# Altium schematic symbol library HW_HOLLAND_NCDM_MONITOR_R1.SchLib: 617 symbols (part 3 of 7)
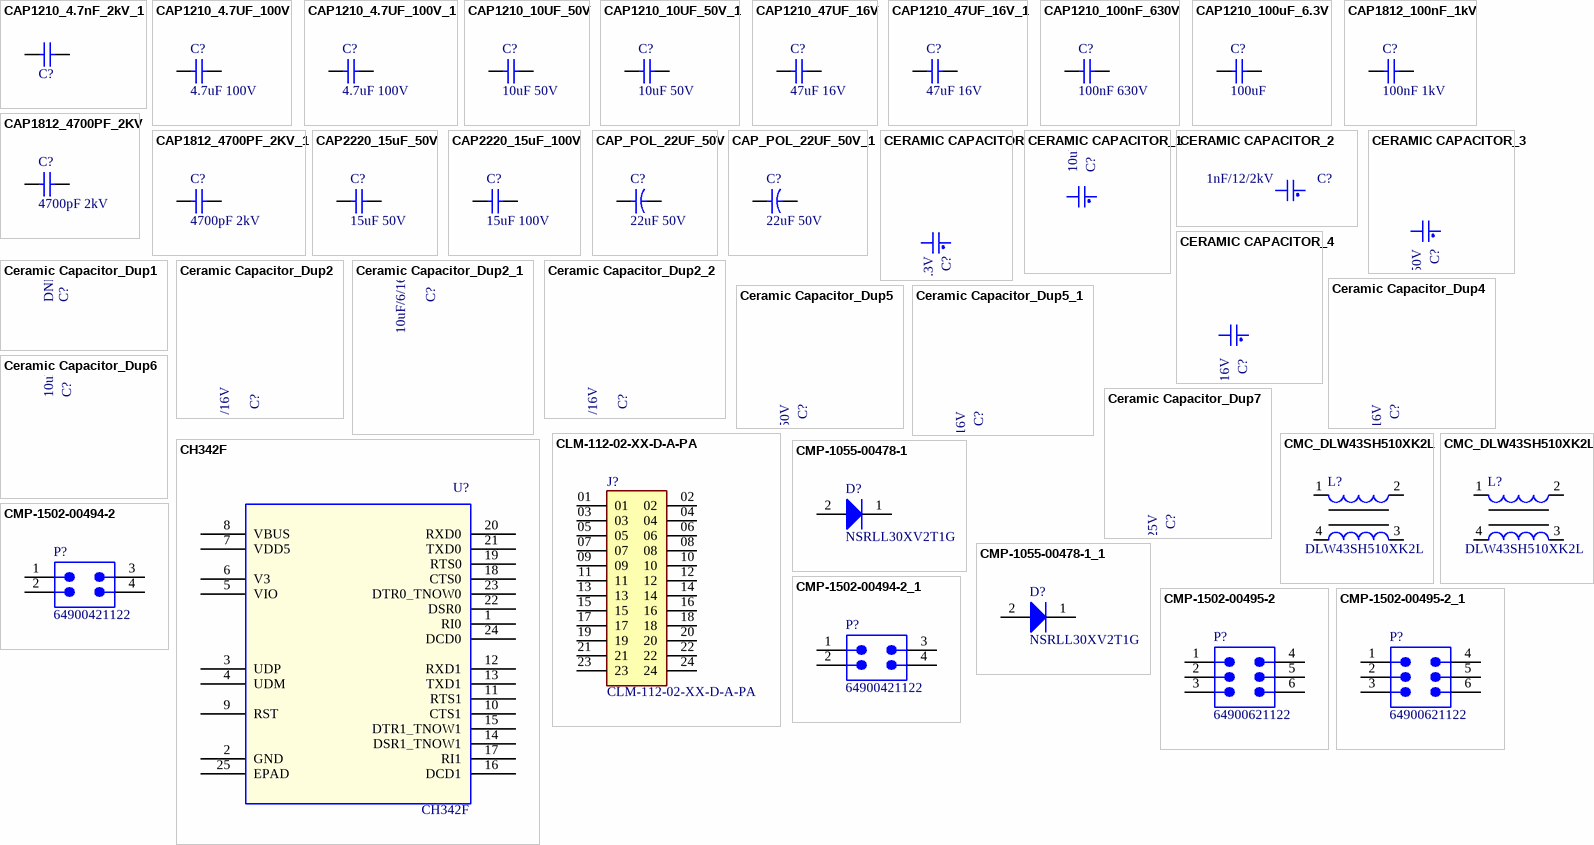
[diagram p21: symbols CAP1210_4.7nF_2kV_1 to CMP-1502-00495-2_1]

## CAP_POL_22UF_50V_1
designator C?, comment value 22uF 50V  (hidden comment: 22uF 50V ±20% SMD,D6.3xL5.4mm Aluminum Electrolytic Capacitors - SMD ROHS)
Manufacturer Part Number: CS1H220M-CRE54; Order Code: LCSC: C98744; LCSC Manufacturer Part Number: CS1H220M-CRE54; LCSC Part Number: C98744
footprint CAP-SMD_BD6.3-L6.6-W6.6-FD
pins: 1, 2

## CERAMIC CAPACITOR
designator C?, comment 22uF/6/6.3V
Ceramic Capacitor,22uF,6.3V,+/-20%,X5R,0603,Samsung; Manufacturer P/N: CL10A226MQ8NRNC; Myir P/N: 20401.00086; PCB Footprint: C0603; Part Type: Ceramic Capacitor; Manufacturer: Samsung; Reserve Value: 22uF; Datasheet: Samsung.pdf
footprint CAP0805
footprint C0603
pins: 1, 2

## CERAMIC CAPACITOR_1
designator C?, comment 10uF/6/16V
Ceramic Capacitor,10uF,+/-20%,X5R,16V,SMD,0603,Samsung; Manufacturer P/N: CL10A106MO8NQNC; Myir P/N: 20401.80062; PCB Footprint: C0603; Datasheet: Samsung.pdf; Reserve Value: 10uF; Manufacturer: Samsung; Part Type: Ceramic Capacitor
footprint CAP0805
footprint C0603
pins: 1, 2

## CERAMIC CAPACITOR_2
designator C?, comment 1nF/12/2kV
Ceramic Capacitor,1nF,+/-10%,2kV,X7R,SMD,1206,Fenghua; Manufacturer P/N: 1206B102K202NT; PCB Footprint: C1206; Myir P/N: 20401.00078; Datasheet: FENGHUA-Capacitor.pdf; Reserve Value: 1nF; Manufacturer: Fenghua; Part Type: Ceramic Capacitor
footprint CAP0805
footprint C1206
pins: 1, 2

## CERAMIC CAPACITOR_3
designator C?, comment 22pF/4/50V
Ceramic Capacitor,22pF,50V,+/-5%,C0G,0402,Fenghua; Manufacturer P/N: 0402CG220J500NT; Myir P/N: 20401.80101; PCB Footprint: C0402; Part Type: Ceramic Capacitor; Manufacturer: Fenghua; Reserve Value: 22pF; Datasheet: FENGHUA-Capacitor.pdf
footprint CAP0805
footprint C0402
pins: 1, 2

## CERAMIC CAPACITOR_4
designator C?, comment 100nF/4/16V
Ceramic Capacitor,100nF,16V,+/-10%,X7R,0402,Fenghua; Manufacturer P/N: 0402B104K160NT; Myir P/N: 20401.80188; PCB Footprint: C0402; Datasheet: FENGHUA-Capacitor.pdf; Reserve Value: 100nF; Manufacturer: Fenghua; Part Type: Ceramic Capacitor
footprint CAP0805
footprint C0402
pins: 1, 2

## Ceramic Capacitor_Dup1
designator C?, comment DNP
Ceramic Capacitor,100nF,16V,+/-10%,X7R,0402,Fenghua; Manufacturer P/N: 0402B104K160NT; PCB Footprint: C0402; Myir P/N: 20401.80188; Part Type: Ceramic Capacitor; Manufacturer: Fenghua; Reserve Value: 100nF; Datasheet: FENGHUA-Capacitor.pdf
footprint CAP0805
footprint C0402

## Ceramic Capacitor_Dup2
designator C?, comment 100nF/4/16V
Ceramic Capacitor,100nF,16V,+/-10%,X7R,0402,Fenghua; Manufacturer P/N: 0402B104K160NT; Myir P/N: 20401.80188; PCB Footprint: C0402; Part Type: Ceramic Capacitor; Manufacturer: Fenghua; Reserve Value: 100nF; Datasheet: FENGHUA-Capacitor.pdf
footprint CAP0805
footprint C0402

## Ceramic Capacitor_Dup2_1
designator C?, comment 10uF/6/16V
Ceramic Capacitor,10uF,+/-20%,X5R,16V,SMD,0603,Samsung; Manufacturer P/N: CL10A106MO8NQNC; Myir P/N: 20401.80062; PCB Footprint: C0603; Part Type: Ceramic Capacitor; Manufacturer: Samsung; Reserve Value: 10uF; Datasheet: Samsung.pdf
footprint CAP0805
footprint C0603

## Ceramic Capacitor_Dup2_2
designator C?, comment 4.7uF/6/16V
Ceramic Capacitor,4.7uF,+/-10%,X5R,16V,SMT,0603,Samsung; Manufacturer P/N: CL10A475KO8NNNC; Myir P/N: 20401.80066; PCB Footprint: C0603; Datasheet: Samsung.pdf; Reserve Value: 4.7uF; Manufacturer: Samsung; Part Type: Ceramic Capacitor
footprint CAP0805
footprint C0603

## Ceramic Capacitor_Dup4
designator C?, comment 100nF/4/16V
Ceramic Capacitor,100nF,16V,+/-10%,X7R,0402,Fenghua; Manufacturer P/N: 0402B104K160NT; Myir P/N: 20401.80188; PCB Footprint: C0402; Part Type: Ceramic Capacitor; Manufacturer: Fenghua; Reserve Value: 100nF; Datasheet: FENGHUA-Capacitor.pdf
footprint CAP0805
footprint C0402

## Ceramic Capacitor_Dup5
designator C?, comment 33pF/4/50V
Ceramic Capacitor,33pF,50V,+/-5%,C0G,0402,Fenghua; Manufacturer P/N: 0402CG330J500NT; Myir P/N: 20401.00091; PCB Footprint: C0402; Datasheet: FENGHUA-Capacitor.pdf; Reserve Value: 33pF; Manufacturer: Fenghua; Part Type: Ceramic Capacitor
footprint CAP0805
footprint C0402

## Ceramic Capacitor_Dup5_1
designator C?, comment 100nF/4/16V
Ceramic Capacitor,100nF,16V,+/-10%,X7R,0402,Fenghua; Manufacturer P/N: 0402B104K160NT; PCB Footprint: C0402; Myir P/N: 20401.80188; Part Type: Ceramic Capacitor; Manufacturer: Fenghua; Reserve Value: 100nF; Datasheet: FENGHUA-Capacitor.pdf
footprint CAP0805
footprint C0402

## Ceramic Capacitor_Dup6
designator C?, comment 10uF/6/16V
Ceramic Capacitor,10uF,+/-20%,X5R,16V,SMD,0603,Samsung; Manufacturer P/N: CL10A106MO8NQNC; PCB Footprint: C0603; Myir P/N: 20401.80062; Part Type: Ceramic Capacitor; Manufacturer: Samsung; Reserve Value: 10uF; Datasheet: Samsung.pdf
footprint CAP0805
footprint C0603

## Ceramic Capacitor_Dup7
designator C?, comment 22uF/12/25V
Ceramic Capacitor,22uF,25V,+/-10%,X5R,1206,Samsung; Manufacturer P/N: CL31A226KAHNNNE; Myir P/N: 20401.00064; PCB Footprint: C1206; Datasheet: Samsung.pdf; Reserve Value: 22uF; Manufacturer: Samsung; Part Type: Ceramic Capacitor
footprint CAP0805
footprint C1206

## CH342F
designator U?
IC,USB2.0 to Dual UART Ports,-40¡æ~+85¡æ,Industrial,SMD,QFN24,CH342F,Qinheng Micro; PCB Footprint: QFN24-0_5; Myir P/N: 20107.00089; Part Type: Interface; Manufacturer: Qinheng Micro; Manufacturer P/N: CH342F; Reserve Value: CH342F; Datasheet: CH342DS1.pdf
footprint QFN24_4*4
footprint QFN24-0_5
pins: 1 RI0, 2 GND, 3 UDP, 4 UDM, 5 VIO, 6 V3, 7 VDD5, 8 VBUS, 9 RST, 10 CTS1, 11 RTS1, 12 RXD1, 13 TXD1, 14 DSR1_TNOW1, 15 DTR1_TNOW1, 16 DCD1, 17 RI1, 18 CTS0, 19 RTS0, 20 RXD0, 21 TXD0, 22 DSR0, 23 DTR0_TNOW0, 24 DCD0, 25 EPAD (power)

## CLM-112-02-XX-D-A-PA
designator J?
24 Position Receptacle, Bottom Entry Connector Surface Mount; Manufacturer Part Number: CLM-112-02-G-D-A; Availability: Unavailable; Value: *; Price: None; Package: None
footprint SAMTEC_CLM-112-02-XX-D-A-PA
pins: 01, 02, 03, 04, 05, 06, 07, 08, 09, 10, 11, 12, 13, 14, 15, 16, 17, 18, 19, 20, 21, 22, 23, 24

## CMC_DLW43SH510XK2L
designator L?  Manufacturer Part Number: DLW43SH510XK2L  (hidden comment: CMC_DLW43SH510XK2L)
CMC 51UH 230MA 2LN SMD AEC-Q200; Value: 51uH; LCSC Part Number: C91595
footprint CMC_DLW43SH510XK2L
pins: 1, 2, 3, 4

## CMC_DLW43SH510XK2L_1
designator L?, comment Manufacturer Part Number: DLW43SH510XK2L  (hidden comment: CMC_DLW43SH510XK2L)
CMC 51UH 230MA 2LN SMD AEC-Q200; Value: 51uH; LCSC Part Number: C91595
footprint CMC_DLW43SH510XK2L
pins: 1, 2, 3, 4

## CMP-1055-00478-1
designator D?, comment NSRLL30XV2T1G
Schottky Barrier Diode, 2-Pin SOD-523, Pb-Free, Tape and Reel; Manufacturer: On Semiconductor; Configuration: Single; PackageReference: SOD-523-2-502-01; PackageVersion: Rev. E, 09/2010; ComponentLink1Description: Manufacturer URL; ComponentLink2URL: http://www.onsemi.cn/pub_link/Collateral/NSRLL30XV2-D.PDF; PartNumber: NSRLL30XV2T1G; PackageDescription: 2-Pin SOD, Body 1.2 x 0.8 mm; RoHS: TRUE; Mounting Technology: Surface Mount; ComponentLink3URL: http://www.onsemi.com/pub_link/Collateral/502-01.PDF; ComponentLink3Description: Package Specification; Packing: Tape and Reel; ComponentLink2Description: Datasheet; DatasheetVersion: Rev. 1; ComponentLink1URL: http://www.onsemi.com/; Manufacturer: ON Semiconductor; Manufacturer Part Number: NSRLL30XV2T1G
footprint ONSC-SOD-523-2-502-01_V (SOD, 2-Leads, Body 1.2x0.8mm)
pins: 1 K, 2 A

## CMP-1055-00478-1_1
designator D?, comment NSRLL30XV2T1G
Schottky Barrier Diode, 2-Pin SOD-523, Pb-Free, Tape and Reel; Manufacturer: On Semiconductor; Configuration: Single; PackageReference: SOD-523-2-502-01; PackageVersion: Rev. E, 09/2010; ComponentLink1Description: Manufacturer URL; ComponentLink2URL: http://www.onsemi.cn/pub_link/Collateral/NSRLL30XV2-D.PDF; PartNumber: NSRLL30XV2T1G; PackageDescription: 2-Pin SOD, Body 1.2 x 0.8 mm; RoHS: TRUE; Mounting Technology: Surface Mount; ComponentLink3URL: http://www.onsemi.com/pub_link/Collateral/502-01.PDF; ComponentLink3Description: Package Specification; Packing: Tape and Reel; ComponentLink2Description: Datasheet; DatasheetVersion: Rev. 1; ComponentLink1URL: http://www.onsemi.com/; Manufacturer: ON Semiconductor; Manufacturer Part Number: NSRLL30XV2T1G
footprint ONSC-SOD-523-2-502-01_V (SOD, 2-Leads, Body 1.2x0.8mm)
pins: 1 K, 2 A

## CMP-1502-00494-2
designator P?, comment 64900421122
NexarPartId: 8917579; Manufacturer: Wurth Electronics; Lead Length: 3.5mm; Pitch: 4.2mm; Number of Contacts: 4; Contact Resistance: 10mΩ; Gender: Male; Connector Type: Male Pin, Socket; Voltage Rating: 600V; Insulation Resistance: 1GΩ; Row Spacing: 5.5118mm; Current Rating: 8A; RoHS: Compliant; Number of Rows: 2; Housing Material: Nylon; Min Operating Temperature: -40°C; Flammability Rating: UL94 V-0; Contact Plating: Tin; REACH SVHC: Unknown; Orientation: Vertical; Contact Material: Copper; Mount: Through Hole; Max Operating Temperature: 105°C; Number of Pins: 4; Width: 9.7mm; Termination: Through Hole; Lead Pitch: 4.2mm; Number of Positions: 4; Contact Gender: Male; Color: White; Height: 12.8mm; Fastening Type: Ramp; Operating Supply Voltage: 600V; Length: 9.6mm; Manufacturer Part Number: 64900421122
footprint 64900421122 (Connector, 4.20mm Male Dual Row Vertical Header, 4 Pins, WR-MPC4)
pins: 1, 2, 3, 4

## CMP-1502-00494-2_1
designator P?, comment 64900421122
NexarPartId: 8917579; Manufacturer: Wurth Electronics; Lead Length: 3.5mm; Pitch: 4.2mm; Number of Contacts: 4; Contact Resistance: 10mΩ; Gender: Male; Connector Type: Male Pin, Socket; Voltage Rating: 600V; Insulation Resistance: 1GΩ; Row Spacing: 5.5118mm; Current Rating: 8A; RoHS: Compliant; Number of Rows: 2; Housing Material: Nylon; Min Operating Temperature: -40°C; Flammability Rating: UL94 V-0; Contact Plating: Tin; REACH SVHC: Unknown; Orientation: Vertical; Contact Material: Copper; Mount: Through Hole; Max Operating Temperature: 105°C; Number of Pins: 4; Width: 9.7mm; Termination: Through Hole; Lead Pitch: 4.2mm; Number of Positions: 4; Contact Gender: Male; Color: White; Height: 12.8mm; Fastening Type: Ramp; Operating Supply Voltage: 600V; Length: 9.6mm; Manufacturer Part Number: 64900421122
footprint 64900421122 (Connector, 4.20mm Male Dual Row Vertical Header, 4 Pins, WR-MPC4)
pins: 1, 2, 3, 4

## CMP-1502-00495-2
designator P?, comment 64900621122
NexarPartId: 8917580; Manufacturer: Wurth Electronics; Voltage Rating: 600V; Number of Positions: 6; Gender: Male; Row Spacing: 5.5118mm; Contact Resistance: 10mΩ; Connector Type: Male Pin, Socket; Pitch: 4.2mm; Insulation Resistance: 1GΩ; Current Rating: 8A; Lead Length: 3.5mm; Housing Material: Nylon; Length: 13.8mm; Fastening Type: Ramp; Orientation: Vertical; RoHS: Compliant; Mount: Through Hole; Number of Contacts: 6; Max Operating Temperature: 105°C; Termination: Through Hole; REACH SVHC: Unknown; Color: White; Contact Gender: Male; Lead Pitch: 4.2mm; Flammability Rating: UL94 V-0; Operating Supply Voltage: 600V; Width: 13.9mm; Min Operating Temperature: -40°C; Contact Material: Copper; Number of Rows: 2; Number of Pins: 6; Contact Plating: Tin; Height: 12.8mm; Manufacturer Part Number: 64900621122
footprint 64900621122 (WR-MPC4; 4.2mm Pitch 6 Way 2 Row Shrouded Straight PCB Header, Through Hole)
pins: 1, 2, 3, 4, 5, 6

## CMP-1502-00495-2_1
designator P?, comment 64900621122
NexarPartId: 8917580; Manufacturer: Wurth Electronics; Voltage Rating: 600V; Number of Positions: 6; Gender: Male; Row Spacing: 5.5118mm; Contact Resistance: 10mΩ; Connector Type: Male Pin, Socket; Pitch: 4.2mm; Insulation Resistance: 1GΩ; Current Rating: 8A; Lead Length: 3.5mm; Housing Material: Nylon; Length: 13.8mm; Fastening Type: Ramp; Orientation: Vertical; RoHS: Compliant; Mount: Through Hole; Number of Contacts: 6; Max Operating Temperature: 105°C; Termination: Through Hole; REACH SVHC: Unknown; Color: White; Contact Gender: Male; Lead Pitch: 4.2mm; Flammability Rating: UL94 V-0; Operating Supply Voltage: 600V; Width: 13.9mm; Min Operating Temperature: -40°C; Contact Material: Copper; Number of Rows: 2; Number of Pins: 6; Contact Plating: Tin; Height: 12.8mm; Manufacturer Part Number: 64900621122
footprint 64900621122 (WR-MPC4; 4.2mm Pitch 6 Way 2 Row Shrouded Straight PCB Header, Through Hole)
pins: 1, 2, 3, 4, 5, 6

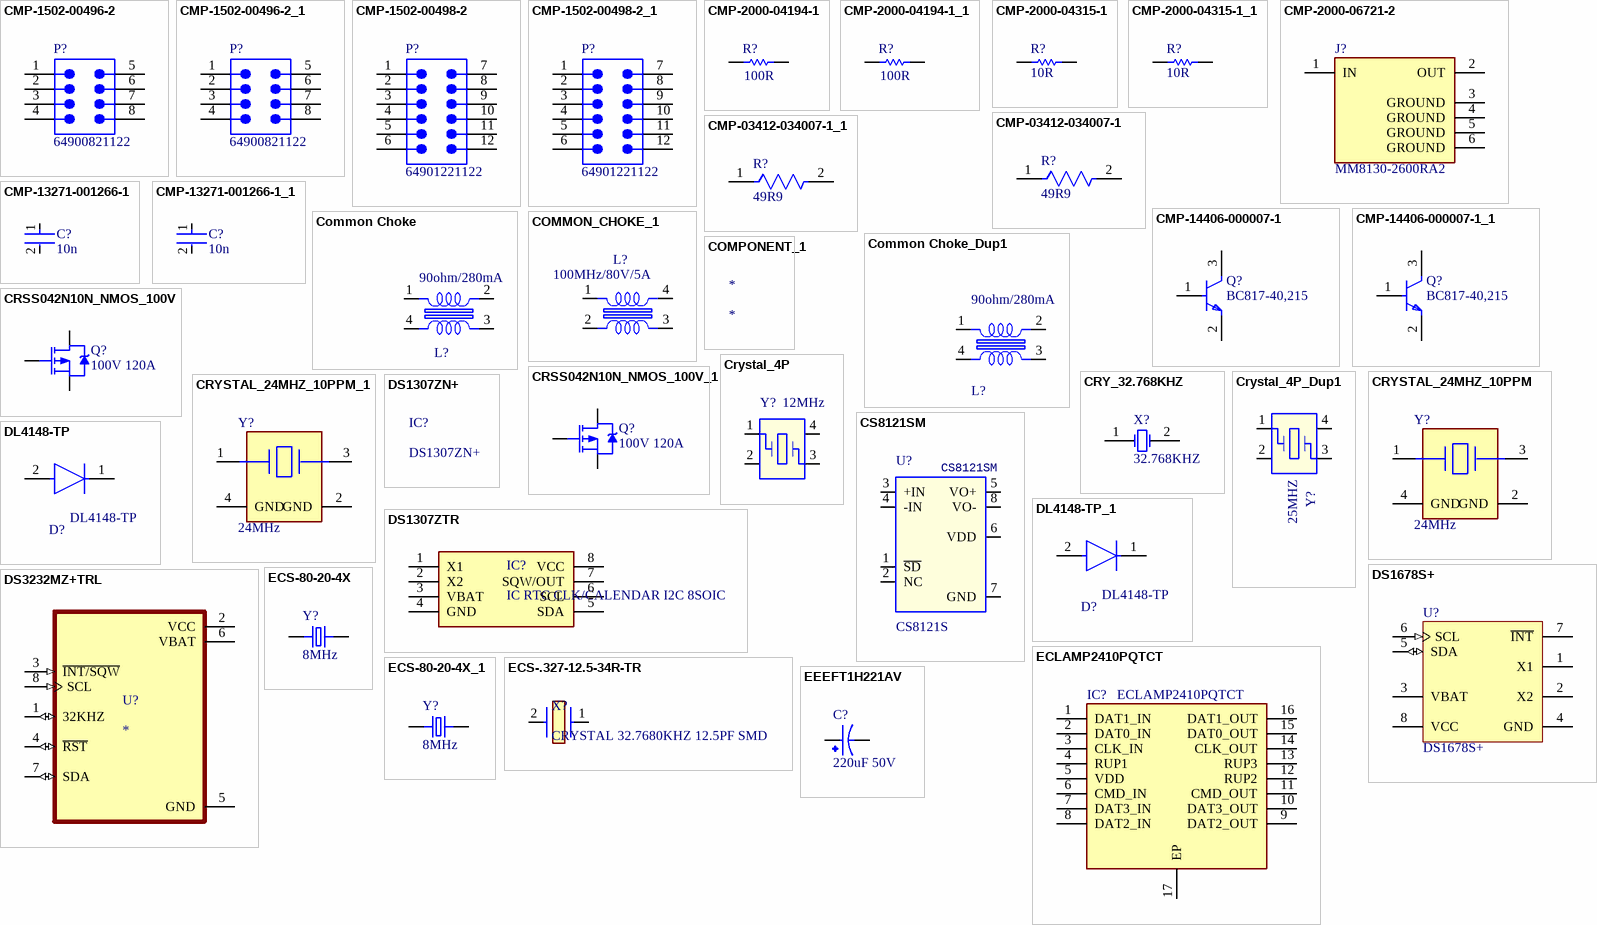
[diagram p5: symbols CMP-1502-00496-2 to EEEFT1H221AV]

## CMP-1502-00496-2
designator P?, comment 64900821122
NexarPartId: 8917581; Manufacturer: Wurth Electronics; Connector Type: Male Pin, Socket; Operating Supply Voltage: 600V; Pitch: 4.2mm; Gender: Male; Number of Positions: 8; Contact Resistance: 10mΩ; Insulation Resistance: 1GΩ; Row Spacing: 5.5118mm; Current Rating: 7A; Insulation: Insulated; Flammability Rating: UL94 V-0; Max Operating Temperature: 105°C; Orientation: Vertical; Min Operating Temperature: -40°C; Contact Gender: Male; Number of Pins: 8; Lead Pitch: 4.2mm; Width: 18.1mm; Height: 9.6mm; REACH SVHC: Unknown; Number of Rows: 2; Number of Contacts: 8; Fastening Type: Ramp; Termination: Through Hole; Housing Material: Nylon; Contact Plating: Tin; Length: 18mm; Contact Material: Copper; Voltage Rating: 600V; RoHS: Compliant; Mount: Through Hole; Color: White; Manufacturer Part Number: 64900821122
footprint 64900821122 (WR-MPC4; 4.2mm Pitch 8 Way 2 Row Shrouded Straight PCB Header, Through Hole)
pins: 1, 2, 3, 4, 5, 6, 7, 8

## CMP-1502-00496-2_1
designator P?, comment 64900821122
NexarPartId: 8917581; Manufacturer: Wurth Electronics; Connector Type: Male Pin, Socket; Operating Supply Voltage: 600V; Pitch: 4.2mm; Gender: Male; Number of Positions: 8; Contact Resistance: 10mΩ; Insulation Resistance: 1GΩ; Row Spacing: 5.5118mm; Current Rating: 7A; Insulation: Insulated; Flammability Rating: UL94 V-0; Max Operating Temperature: 105°C; Orientation: Vertical; Min Operating Temperature: -40°C; Contact Gender: Male; Number of Pins: 8; Lead Pitch: 4.2mm; Width: 18.1mm; Height: 9.6mm; REACH SVHC: Unknown; Number of Rows: 2; Number of Contacts: 8; Fastening Type: Ramp; Termination: Through Hole; Housing Material: Nylon; Contact Plating: Tin; Length: 18mm; Contact Material: Copper; Voltage Rating: 600V; RoHS: Compliant; Mount: Through Hole; Color: White; Manufacturer Part Number: 64900821122
footprint 64900821122 (WR-MPC4; 4.2mm Pitch 8 Way 2 Row Shrouded Straight PCB Header, Through Hole)
pins: 1, 2, 3, 4, 5, 6, 7, 8

## CMP-1502-00498-2
designator P?, comment 64901221122
NexarPartId: 23024617; Manufacturer: Wurth Electronics; Connector Type: Male Pin, Socket; Row Spacing: 4.191mm; Contact Resistance: 10mΩ; Number of Positions: 12; Insulation Resistance: 1GΩ; Current Rating: 6A; Pitch: 4.2mm; Gender: Male; Operating Supply Voltage: 600V; Min Operating Temperature: -40°C; Height: 12.8mm; Termination: Solder; Contact Material: Copper; Orientation: Vertical; Color: White; Length: 26.4mm; Number of Rows: 2; Mount: Through Hole; Width: 26.5mm; Contact Plating: Tin; RoHS: Compliant; Fastening Type: Ramp; Max Operating Temperature: 105°C; Lead Pitch: 4.2mm; Number of Contacts: 12; REACH SVHC: Unknown; Number of Pins: 12; Manufacturer Part Number: 64901221122
footprint 64901221122 (Connector, 4.20mm Male Dual Row Vertical Header, 12 Pins, WR-MPC4)
pins: 1, 2, 3, 4, 5, 6, 7, 8, 9, 10, 11, 12

## CMP-1502-00498-2_1
designator P?, comment 64901221122
NexarPartId: 23024617; Manufacturer: Wurth Electronics; Connector Type: Male Pin, Socket; Row Spacing: 4.191mm; Contact Resistance: 10mΩ; Number of Positions: 12; Insulation Resistance: 1GΩ; Current Rating: 6A; Pitch: 4.2mm; Gender: Male; Operating Supply Voltage: 600V; Min Operating Temperature: -40°C; Height: 12.8mm; Termination: Solder; Contact Material: Copper; Orientation: Vertical; Color: White; Length: 26.4mm; Number of Rows: 2; Mount: Through Hole; Width: 26.5mm; Contact Plating: Tin; RoHS: Compliant; Fastening Type: Ramp; Max Operating Temperature: 105°C; Lead Pitch: 4.2mm; Number of Contacts: 12; REACH SVHC: Unknown; Number of Pins: 12; Manufacturer Part Number: 64901221122
footprint 64901221122 (Connector, 4.20mm Male Dual Row Vertical Header, 12 Pins, WR-MPC4)
pins: 1, 2, 3, 4, 5, 6, 7, 8, 9, 10, 11, 12

## CMP-2000-04194-1
designator R?, comment 100R
Part Number: RC0603FR-13100RL; Manufacturer: Yageo; Manufacturer Part Number: RC0603FR-13100RL
footprint RESC1608X55X25NL10T15 (Chip Resistor, 2-Leads, Body 1.60x0.80mm, IPC Medium Density)
footprint RESC1608X55X25LL10T15 (Chip Resistor, 2-Leads, Body 1.60x0.80mm, IPC High Density)
footprint RESC1608X55X25ML10T15 (Chip Resistor, 2-Leads, Body 1.60x0.80mm, IPC Low Density)
pins: 1, 2
1 alternate drawing of the same symbol

## CMP-2000-04194-1_1
designator R?, comment 100R
Part Number: RC0603FR-13100RL; Manufacturer: Yageo; Manufacturer Part Number: RC0603FR-13100RL
footprint RESC1608X55X25NL10T15 (Chip Resistor, 2-Leads, Body 1.60x0.80mm, IPC Medium Density)
footprint RESC1608X55X25LL10T15 (Chip Resistor, 2-Leads, Body 1.60x0.80mm, IPC High Density)
footprint RESC1608X55X25ML10T15 (Chip Resistor, 2-Leads, Body 1.60x0.80mm, IPC Low Density)
pins: 1, 2
1 alternate drawing of the same symbol

## CMP-2000-04315-1
designator R?, comment 10R
Part Number: RC0603JR-1310RL; Manufacturer: Yageo; Manufacturer Part Number: RC0603JR-1310RL
footprint RESC1608X55X25LL10T15 (Chip Resistor, 2-Leads, Body 1.60x0.80mm, IPC High Density)
footprint RESC1608X55X25ML10T15 (Chip Resistor, 2-Leads, Body 1.60x0.80mm, IPC Low Density)
footprint RESC1608X55X25NL10T15 (Chip Resistor, 2-Leads, Body 1.60x0.80mm, IPC Medium Density)
pins: 1, 2
1 alternate drawing of the same symbol

## CMP-2000-04315-1_1
designator R?, comment 10R
Part Number: RC0603JR-1310RL; Manufacturer: Yageo; Manufacturer Part Number: RC0603JR-1310RL
footprint RESC1608X55X25LL10T15 (Chip Resistor, 2-Leads, Body 1.60x0.80mm, IPC High Density)
footprint RESC1608X55X25ML10T15 (Chip Resistor, 2-Leads, Body 1.60x0.80mm, IPC Low Density)
footprint RESC1608X55X25NL10T15 (Chip Resistor, 2-Leads, Body 1.60x0.80mm, IPC Medium Density)
pins: 1, 2
1 alternate drawing of the same symbol

## CMP-2000-06721-2
designator J?, comment MM8130-2600RA2
CONN SWF RCPT STR 50 OHM SMD; Manufacturer: Murata; Frequency: 6GHz; Number Of Contacts: 2; Conn Orientation: Vertical; Impedance: 50Ω; Automotive: No; Device Class L2: RF / Coaxial Connectors; Height: 1.5mm; RoHS: TRUE; Temperature Range High: +85°C; ComponentLink2URL: https://media.digikey.com/pdf/Data%20Sheets/Murata%20PDFs/Microwave_Coaxial_Conn_Cat030E.pdf; ComponentLink2Description: Datasheet; Temperature Range Low: -40°C; Lead Free: Yes; Device Class L1: Connectors; Octopart: https://octopart.com/mm8130-2600ra2-murata-7861560; Category: Conn; Device Class L3: unset; Mouser Description: RF Connectors / Coaxial Connectors CONNECTOR; Package: 0; Temperature: -40°C to +85°C; Contact Material: Gold; Manufacturer Part Number: MM8130-2600RA2; Digikey Description: CONN SWF RCPT STR 50 OHM SMD
footprint FP-MM8130-2600RA2-MFG
pins: 1 IN, 2 OUT, 3 GROUND (power), 4 GROUND (power), 5 GROUND (power), 6 GROUND (power)

## CMP-03412-034007-1
designator R?, comment 49R9
RES SMD 49.9OHM 0.05% 1/10W 0603; Manufacturer: Yageo; Manufacturer Part Number: RT0603WRE0749R9L; Voltage Rating: 75V; Tolerance: 0.0005; Power Rating: 0.1W; Resistance: 49.9Ω; Temperature Coefficient: 50 ppm/°C; Value: 49.9Ω; RoHS: TRUE; Temperature Range Low: -55°C; Device Class L2: Resistors; Device Class L1: Passive Components; Footprint Url: http://www.yageo.com/exep/pages/download/literatures/PYu-R_Mount_10.pdf; Series: RT; Category: Res; Lead Free: Yes; Temperature: -55°C to +155°C; Octopart: https://octopart.com/rt0603wre0749r9l-yageo-71397127; Device Class L3: Chip SMD Resistors; Height: 0.55mm; Digikey Description: RES SMD 49.9OHM 0.05% 1/10W 0603; ComponentLink2Description: Datasheet; ComponentLink2URL: http://www.yageo.com/documents/recent/PYu-RT_1-to-0.01_RoHS_L_9.pdf; Automotive: No; Package: RT0603; Composition: Thin Film; Ipc Land Pattern Name: RESC16080X45; Temperature Range High: +155°C
footprint FP-RT0603-MFG
footprint FP-RT0603-IPC_C
footprint FP-RT0603-IPC_B
footprint FP-RT0603-IPC_A
pins: 1, 2

## CMP-03412-034007-1_1
designator R?, comment 49R9
RES SMD 49.9OHM 0.05% 1/10W 0603; Manufacturer: Yageo; Manufacturer Part Number: RT0603WRE0749R9L; Voltage Rating: 75V; Tolerance: 0.0005; Power Rating: 0.1W; Resistance: 49.9Ω; Temperature Coefficient: 50 ppm/°C; Value: 49.9Ω; RoHS: TRUE; Temperature Range Low: -55°C; Device Class L2: Resistors; Device Class L1: Passive Components; Footprint Url: http://www.yageo.com/exep/pages/download/literatures/PYu-R_Mount_10.pdf; Series: RT; Category: Res; Lead Free: Yes; Temperature: -55°C to +155°C; Octopart: https://octopart.com/rt0603wre0749r9l-yageo-71397127; Device Class L3: Chip SMD Resistors; Height: 0.55mm; Digikey Description: RES SMD 49.9OHM 0.05% 1/10W 0603; ComponentLink2Description: Datasheet; ComponentLink2URL: http://www.yageo.com/documents/recent/PYu-RT_1-to-0.01_RoHS_L_9.pdf; Automotive: No; Package: RT0603; Composition: Thin Film; Ipc Land Pattern Name: RESC16080X45; Temperature Range High: +155°C
footprint FP-RT0603-MFG
footprint FP-RT0603-IPC_C
footprint FP-RT0603-IPC_B
footprint FP-RT0603-IPC_A
pins: 1, 2

## CMP-13271-001266-1
designator C?, comment 10n
Cap Ceramic 10nF 50V X7R ±10% Pad SMD 0603 +125°C T/R; Manufacturer: Samsung; Manufacturer Part Number: CL10B103KB8NFNC; Height: 0.8mm; Case Code (Metric): 1608; Capacitance: 10nF; Width: 0.031inch; Voltage Rating: 50V; Dielectric: X7R; Case Code (Imperial): 0603; Mount: Surface Mount; Thickness: 0.035inch; Max Operating Temperature: 125°C; Min Operating Temperature: -55°C; Case/Package: 0603; Length: 0.063inch; Tolerance: 10%; Depth: 0.8mm; Radiation Hardening: No; Packaging: Tape and Reel; Contact Plating: Tin
footprint FP-CL10-IPC_C
footprint FP-CL10-IPC_B
footprint FP-CL10-IPC_A
pins: 1, 2

## CMP-13271-001266-1_1
designator C?, comment 10n
Cap Ceramic 10nF 50V X7R ±10% Pad SMD 0603 +125°C T/R; Manufacturer: Samsung; Manufacturer Part Number: CL10B103KB8NFNC; Height: 0.8mm; Case Code (Metric): 1608; Capacitance: 10nF; Width: 0.031inch; Voltage Rating: 50V; Dielectric: X7R; Case Code (Imperial): 0603; Mount: Surface Mount; Thickness: 0.035inch; Max Operating Temperature: 125°C; Min Operating Temperature: -55°C; Case/Package: 0603; Length: 0.063inch; Tolerance: 10%; Depth: 0.8mm; Radiation Hardening: No; Packaging: Tape and Reel; Contact Plating: Tin
footprint FP-CL10-IPC_C
footprint FP-CL10-IPC_B
footprint FP-CL10-IPC_A
pins: 1, 2

## CMP-14406-000007-1
designator Q?, comment BC817-40,215
TRANS NPN 45V 0.5A SOT23; Manufacturer: Nexperia; Collector Emitter Saturation Voltage: 700mV; Power Dissipation: 250mW; Collector Base Voltage: 50V; Unity Gain Freq: 100MHz; Hfe Max: 600; Rthja Max: 500K/W; Emitter Base Voltage: 5V; Max Collector Current: 500mA; Hfe Testvce: 1V; Automotive Grade: Grade 0; Hfe Min: 250; Max Junction Temp: +150°C; Number Of Npn: 1; Hfe Testic: 100mA; Octopart: https://octopart.com/bc817-40%2C215-nexperia-78739081; Lead Free: Yes; Ipc Land Pattern Name: SOT95P230X100-3; Manufacturer Part Number: BC817-40,215; RoHS: TRUE; Collector Emitter Breakdown Voltage: 45V; Digikey Description: TRANS NPN 45V 0.5A SOT23; ComponentLink2URL: https://assets.nexperia.com/documents/data-sheet/BC817_SER.pdf; Temperature Range High: +150°C; Mouser Description: BC817 Series 45 V 500 mA 250 mW SMT NPN General-Purpose Transistor - SOT-23-; Device Class L3: BJTs; Temperature: to +150°C; Height: 1.1mm; Automotive: Yes; Ambient Temperature Range Low: -65°C; Package: SOT23; Collector Emitter Voltage: 45V; Category: Trans; ComponentLink2Description: Datasheet; Device Class L2: Transistors; Ambient Temperature Range High: +150°C; Number Of Elements: 1; Device Class L1: Discrete Semiconductors; Footprint Url: https://assets.nexperia.com/documents/outline-drawing/SOT23.pdf
footprint FP-SOT23-MFG
footprint FP-SOT23-IPC_C
footprint FP-SOT23-IPC_B
footprint FP-SOT23-IPC_A
pins: 1 B, 2 E, 3 C

## CMP-14406-000007-1_1
designator Q?, comment BC817-40,215
TRANS NPN 45V 0.5A SOT23; Manufacturer: Nexperia; Collector Emitter Saturation Voltage: 700mV; Power Dissipation: 250mW; Collector Base Voltage: 50V; Unity Gain Freq: 100MHz; Hfe Max: 600; Rthja Max: 500K/W; Emitter Base Voltage: 5V; Max Collector Current: 500mA; Hfe Testvce: 1V; Automotive Grade: Grade 0; Hfe Min: 250; Max Junction Temp: +150°C; Number Of Npn: 1; Hfe Testic: 100mA; Octopart: https://octopart.com/bc817-40%2C215-nexperia-78739081; Lead Free: Yes; Ipc Land Pattern Name: SOT95P230X100-3; Manufacturer Part Number: BC817-40,215; RoHS: TRUE; Collector Emitter Breakdown Voltage: 45V; Digikey Description: TRANS NPN 45V 0.5A SOT23; ComponentLink2URL: https://assets.nexperia.com/documents/data-sheet/BC817_SER.pdf; Temperature Range High: +150°C; Mouser Description: BC817 Series 45 V 500 mA 250 mW SMT NPN General-Purpose Transistor - SOT-23-; Device Class L3: BJTs; Temperature: to +150°C; Height: 1.1mm; Automotive: Yes; Ambient Temperature Range Low: -65°C; Package: SOT23; Collector Emitter Voltage: 45V; Category: Trans; ComponentLink2Description: Datasheet; Device Class L2: Transistors; Ambient Temperature Range High: +150°C; Number Of Elements: 1; Device Class L1: Discrete Semiconductors; Footprint Url: https://assets.nexperia.com/documents/outline-drawing/SOT23.pdf
footprint FP-SOT23-MFG
footprint FP-SOT23-IPC_C
footprint FP-SOT23-IPC_B
footprint FP-SOT23-IPC_A
pins: 1 B, 2 E, 3 C

## Common Choke
designator L?, comment 90ohm/280mA
Inductor,Common Choke,90ohm@100MHz,¡À25%,280mA,0.4ohm,SMD 2*1.2*1.2mm,Sunlord; Manufacturer P/N: SDCW2012-2-900TF; PCB Footprint: indcm-sdcw2012; Myir P/N: 20504.00002; Reserve Value: 90ohm; Part Type: Common Inductor; Manufacturer: Sunlord; Datasheet: SDCW2012-2.pdf
footprint MURATA_DLW21S
footprint indcm-sdcw2012
pins: 1, 2, 3, 4

## Common Choke_Dup1
designator L?, comment 90ohm/280mA
Inductor,Common Choke,90ohm@100MHz,¡À25%,280mA,0.4ohm,SMD 2*1.2*1.2mm,Sunlord; Manufacturer P/N: SDCW2012-2-900TF; Reserve Value: 90ohm; Myir P/N: 20504.00002; PCB Footprint: indcm-sdcw2012; Datasheet: SDCW2012-2.pdf; Manufacturer: Sunlord; Part Type: Common Inductor
footprint MURATA_DLW21S
footprint indcm-sdcw2012
pins: 1, 2, 3, 4

## COMMON_CHOKE_1
designator L?, comment 100MHz/80V/5A
Filters,2 Function(s), 80V, 5A,-40~85¡æ,L7.0XB6.0XH3.5,TDK; Manufacturer P/N: ACM7060-301-2PL-TL01; Reserve Value: 100MHz; Myir P/N: 20504.00009; PCB Footprint: indcm-acm7060; Datasheet: cmf_commercial_power_acm7060_zh.pdf; Manufacturer: TDK; Part Type: Common Inductor
footprint MURATA_DLW21S
footprint indcm-acm7060
pins: 1, 2, 3, 4

## COMPONENT_1
designator *

## CRSS042N10N_NMOS_100V
designator Q?, comment 100V 120A
100V 120A 227W 4.2mΩ@10V,50A N Channel TO-263-3 MOSFETs ROHS; LCSC Manufacturer Part Number: CRSS042N10N; Value: 100V 120A; LCSC Part Number: C410926
footprint TO263-2
pins: 1 G, 2 D, 3 S

## CRSS042N10N_NMOS_100V_1
designator Q?, comment 100V 120A
100V 120A 227W 4.2mΩ@10V,50A N Channel TO-263-3 MOSFETs ROHS; LCSC Manufacturer Part Number: CRSS042N10N; LCSC Part Number: C410926; Value: 100V 120A
footprint TO263-2
pins: 1 G, 2 D, 3 S

## CRY_32.768KHZ
designator X?, comment 32.768KHZ
CRYSTAL 32.768KHZ 12.5PF SMD; Order Code: DIGI : 2195-CM7V-T1A-32.768KHZ-12.5PF-20PPM-TB-QACT-ND; Value: 32.768KHZ
footprint CRY_ABS07 (0.126" L x 0.059" W (3.20mm x 1.50mm))
pins: 1 OSC1, 2 OSC2

## Crystal_4P
designator Y?, comment 12MHz
Crystal,12MHz,+/-20ppm,18pF,-40~85¡ãC,4Pin,3225,SMD,SJK; Manufacturer P/N: SJK-7U12000MAH2420B8; RP1 Manufacturer P/N: 7M12000031; CLASS: IC; Myir P/N: 20901.00031; PCB Footprint: 3225; RP1 Myir P/N: 20901.00003; Datasheet: 7U12000MAH2420B8.pdf; Reserve Value: 12MHz; Manufacturer: SJK; Part Type: Crystal
footprint 3225
pins: 1, 2, 3, 4

## Crystal_4P_Dup1
designator Y?, comment 25MHZ
Crystal,25MHz,+/-10ppm,18pF,4Pin,3225,-40¡æto+85¡æ,SMD,SJK; RP2 Manufacturer P/N: E3FB25E000012E; RP1 Manufacturer P/N: 7V25000025; Manufacturer P/N: SJK-7U25000MAH1430B8; RP2 Myir P/N: 20901.00020; RP1 Myir P/N: 20901.00005; Myir P/N: 20901.00029; PCB Footprint: 3225; Reserve Value: 25MHz; Manufacturer: SJK; Part Type: Crystal; Datasheet: 7U25000MAH1430B8.pdf
footprint 3225
pins: 1, 2 GND/NC (power), 3, 4 GND/NC (power)

## CRYSTAL_24MHZ_10PPM
designator Y?, comment value 24MHz  (hidden comment: 24MHz 16pF ±10ppm ±30ppm SMD3225-4P Crystals ROHS)
Manufacturer Part Number: 7U24000E16UCG; Order Code: LCSC: C557197; LCSC Manufacturer Part Number: 7U24000E16UCG; LCSC Part Number: C557197
footprint 3225_CRYSTAL
pins: 1, 2 GND (power), 3, 4 GND (power)

## CRYSTAL_24MHZ_10PPM_1
designator Y?, comment value 24MHz  (hidden comment: 24MHz 16pF ±10ppm ±30ppm SMD3225-4P Crystals ROHS)
Manufacturer Part Number: 7U24000E16UCG; Order Code: LCSC: C557197; LCSC Manufacturer Part Number: 7U24000E16UCG; LCSC Part Number: C557197
footprint 3225_CRYSTAL
pins: 1, 2 GND (power), 3, 4 GND (power)

## CS8121SM
designator U?, comment CS8121S
IC,4.0W mono output,super low EMI,class D audio amplify.-40~85¡æ,Power input 2.6~6.5V,SOP8L,ChipStar; Myir P/N: 20115.00012; PCB Footprint: SOIC8; Part Type: Interface; Manufacturer: Chipstar; Manufacturer P/N: CS8121S; Reserve Value: CS8121S; Datasheet: CS8121_ch_v1.0.pdf
footprint soic8
pins: 1 ~{SD}, 2 NC, 3 +IN (hiz), 4 -IN (hiz), 5 VO+ (hiz), 6 VDD (power), 7 GND (power), 8 VO- (hiz)

## DL4148-TP
designator D?  (value not drawn)
DIODE GEN 75V 150MA MINI MELF; Manufacturer: Micro Commercial; Capacitance: SKIP; Library Path1: parts/Diode_Micro_Commercial_DL4148-TP_eec.SchLib; Value: SKIP; Part Number: DL4148-TP; Datasheet Path: datasheets/Diode_Micro_Commercial_DL4148-TP_eec.pdf; ComponentLink1Description: Upverter; ComponentLink1URL: https://upverter.com/upn/revision/6c2c53871e71e105/; ComponentLink2Description: Datasheet; ComponentLink2URL: http://www.mccsemi.com/up_pdf/DL4148(MiniMelf).pdf; Datasheet Path1: datasheets/Diode_Micro_Commercial_DL4148-TP_eec.pdf; Digikey Description: DIODE GEN 75V 150MA MINI MELF; Digikey Part Number: DL4148-TPMSCT-ND; Inductance: SKIP; Ipc Land Pattern Name: DIOMELF350145; Lead Free: yes; Library Ref1: DL4148-TP; Mouser Part Number: 833-DL4148-TP; Package: MiniMELF; Price: 0.0847543684707; Resistance: SKIP; RoHS: TRUE; Supplier 1: Digi-Key; Supplier 2: Mouser; Supplier Part Number 1: DL4148-TPMSCT-ND; Supplier Part Number 2: 833-DL4148-TP; Temperature: -65℃ to +175℃; Temperature Range High: +175℃; Temperature Range Low: -65℃; Voltage: 75V; helpURL: https://upverter.com/upn/revision/6c2c53871e71e105/
footprint Micro_Commercial_DL4148-TP_0
pins: 1 C, 2 A

## DL4148-TP_1
designator D?, comment DL4148-TP  (value not drawn)
DIODE GEN 75V 150MA MINI MELF; Manufacturer: Micro Commercial; Capacitance: SKIP; Library Path1: parts/Diode_Micro_Commercial_DL4148-TP_eec.SchLib; Value: SKIP; Part Number: DL4148-TP; Datasheet Path: datasheets/Diode_Micro_Commercial_DL4148-TP_eec.pdf; ComponentLink1Description: Upverter; ComponentLink1URL: https://upverter.com/upn/revision/6c2c53871e71e105/; ComponentLink2Description: Datasheet; ComponentLink2URL: http://www.mccsemi.com/up_pdf/DL4148(MiniMelf).pdf; Datasheet Path1: datasheets/Diode_Micro_Commercial_DL4148-TP_eec.pdf; Digikey Description: DIODE GEN 75V 150MA MINI MELF; Digikey Part Number: DL4148-TPMSCT-ND; Inductance: SKIP; Ipc Land Pattern Name: DIOMELF350145; Lead Free: yes; Library Ref1: DL4148-TP; Mouser Part Number: 833-DL4148-TP; Package: MiniMELF; Price: 0.0847543684707; Resistance: SKIP; RoHS: TRUE; Supplier 1: Digi-Key; Supplier 2: Mouser; Supplier Part Number 1: DL4148-TPMSCT-ND; Supplier Part Number 2: 833-DL4148-TP; Temperature: -65℃ to +175℃; Temperature Range High: +175℃; Temperature Range Low: -65℃; Voltage: 75V; helpURL: https://upverter.com/upn/revision/6c2c53871e71e105/
footprint Micro_Commercial_DL4148-TP_0
pins: 1 C, 2 A

## DS1307ZN+
designator IC?
Crystal 0.032768MHz ±20ppm (Tol) 12.5pF Flexural 50000Ohm 2-Pin Mini-CSMD T/R; Manufacturer: Maxim; Supplier 1: Digikey; Manufacturer Part Number: DS1307ZN+; RoHS: Yes; Category: Real Time Clocks; Stock 1: 3879; Pricing 1: 1=5.62, 10=5.048, 25=4.7724, 100=4.136, 300=3.92387, 500=3.52086, 1000=2.9694, 2500=2.82093 (USD); ComponentLink1URL: https://datasheet.ciiva.com/1139/46359-1139143.pdf?src-supplier=Element14; ComponentLink1Description: https://datasheet.ciiva.com/1139/46359-1139143.pdf?src-supplier=Element14; ComponentLink2URL: https://datasheet.ciiva.com/3304/ds1307-3304459.pdf?src-supplier=Avnet; ComponentLink2Description: https://datasheet.ciiva.com/3304/ds1307-3304459.pdf?src-supplier=Avnet; ComponentLink3URL: https://datasheet.ciiva.com/1240/ds1307-1240470.pdf?src-supplier=Digikey; ComponentLink3Description: https://datasheet.ciiva.com/1240/ds1307-1240470.pdf?src-supplier=Digikey; ComponentLink4URL: https://datasheet.ciiva.com/43489/170005-da-01-en-ic-ds1307zn-so8-43489355.pdf?src-supplier=Conrad; ComponentLink4Description: https://datasheet.ciiva.com/43489/170005-da-01-en-ic-ds1307zn-so8-43489355.pdf?src-supplier=Conrad; Supplier Part Number 1: DS1307ZN+-ND; Supplier 2: Digikey; Stock 2: 143770; Pricing 2: 3000=0.29689 (USD); ComponentLink5URL: http://www.mouser.com/ds/2/122/ECX_34R-845158.pdf?src-supplier=Mouser; ComponentLink5Description: http://www.mouser.com/ds/2/122/ECX_34R-845158.pdf?src-supplier=Mouser; ComponentLink6URL: http://www.ecsxtal.com/store/pdf/partnumber4.pdf?src-supplier=Digikey; ComponentLink6Description: http://www.ecsxtal.com/store/pdf/partnumber4.pdf?src-supplier=Digikey; ComponentLink7URL: http://www.ecsxtal.com/store/pdf/ECX_34R.pdf?src-supplier=Digikey; ComponentLink7Description: http://www.ecsxtal.com/store/pdf/ECX_34R.pdf?src-supplier=Digikey; ComponentLink8URL: https://datasheet.octopart.com/ECS-.327-12.5-34R-TR-ECS-International-datasheet-145025602.pdf?src-supplier=Future+Electronics; ComponentLink8Description: https://datasheet.octopart.com/ECS-.327-12.5-34R-TR-ECS-International-datasheet-145025602.pdf?src-supplier=Future+Electronics; ComponentLink9URL: https://datasheet.octopart.com/ECS-.327-12.5-34R-TR-ECS-International-datasheet-138896068.pdf?src-supplier=Master+Electronics; ComponentLink9Description: https://datasheet.octopart.com/ECS-.327-12.5-34R-TR-ECS-International-datasheet-138896068.pdf?src-supplier=Master+Electronics; Supplier Part Number 2: XC2124TR-ND

## DS1307ZTR
designator IC?, comment IC RTC CLK/CALENDAR I2C 8SOIC
Real Time Clock 64x8 Serial I2C RTC; Manufacturer: Maxim; Manufacturer Part Number: DS1307ZTR; Supplier 1: Digikey; RoHS: Yes; Stock 1: 11500; Pricing 1: 2500=2.13766 (USD); ComponentLink1URL: https://datasheet.ciiva.com/22828/0900766b810e2680-22828066.pdf?src-supplier=Rs; ComponentLink1Description: https://datasheet.ciiva.com/22828/0900766b810e2680-22828066.pdf?src-supplier=Rs; ComponentLink2URL: https://datasheet.ciiva.com/3304/ds1307-3304458.pdf?src-supplier=Avnet; ComponentLink2Description: https://datasheet.ciiva.com/3304/ds1307-3304458.pdf?src-supplier=Avnet; ComponentLink3URL: https://datasheet.ciiva.com/17307/ds1307-17307070.pdf?; ComponentLink3Description: https://datasheet.ciiva.com/17307/ds1307-17307070.pdf?; Supplier Part Number 1: DS1307Z+T&RTR-ND
footprint SOIC127P600X175-8N
pins: 1 X1, 2 X2, 3 VBAT, 4 GND, 5 SDA, 6 SCL, 7 SQW/OUT, 8 VCC

## DS1678S+
designator U?
Real-Time Event Recorder, 32 Byte Battery-Backed NV RAM, 5.0V, 8-Pin SO, -40 to 85 degC, Pb-Free; ComponentLink1Description: Manufacturer URL; ComponentLink2Description: Datasheet; ComponentLink3Description: Package Specification; ComponentLink3URL: http://pdfserv.maxim-ic.com/package_dwgs/21-0262.PDF; DatasheetVersion: Apr-2005; ComponentLink1URL: http://www.maxim-ic.com; PackageVersion: revB, 2010; PackageDescription: 8-Pin Small-Outline IC, 0.208in, 1.27 mm Pitch, SOIC, Pb-Free; ComponentLink2URL: http://datasheets.maxim-ic.com/en/ds/DS1678.pdf; PackageReference: W8+4; Manufacturer Part Number: DS1678S+
footprint W8+4_N (SOP, 8-Leads, Body 5.3x5.3mm, Pitch 1.27mm, IPC Medium Density)
pins: 1 X1, 2 X2, 3 VBAT (power), 4 GND (power), 5 SDA (io), 6 SCL (in), 7 ~{INT}, 8 VCC (power)

## DS3232MZ+TRL
designator U?
Real Time Clock (RTC) IC Clock/Calendar 236B I²C, 2-Wire Serial 8-SOIC (0.154, 3.90mm Width); Manufacturer: Maxim; Manufacturer Part Number: DS3232MZ+TRL; Supplier 1: Digikey; RoHS: Yes; Category: Real Time Clocks; Stock 1: 40000; Pricing 1: 2500=5.252 (USD); ComponentLink1URL: https://datasheet.ciiva.com/12291/ds3232m-95532-12291172.pdf?src-supplier=Mouser; ComponentLink1Description: https://datasheet.ciiva.com/12291/ds3232m-95532-12291172.pdf?src-supplier=Mouser; ComponentLink2URL: https://datasheet.ciiva.com/14085/ds3232m-14085670.pdf?src-supplier=Digikey; ComponentLink2Description: https://datasheet.ciiva.com/14085/ds3232m-14085670.pdf?src-supplier=Digikey; ComponentLink3URL: https://datasheet.ciiva.com/14196/ds3232m-14196620.pdf?src-supplier=Avnet; ComponentLink3Description: https://datasheet.ciiva.com/14196/ds3232m-14196620.pdf?src-supplier=Avnet; Supplier Part Number 1: DS3232MZ+TRLTR-ND
footprint SOIC127P600X175-8N - duplicate1
pins: 1 32KHZ (io), 2 VCC (power), 3 ~{INT/SQW} (in), 4 ~{RST} (io), 5 GND, 6 VBAT (power), 7 SDA (io), 8 SCL (in)

## ECLAMP2410PQTCT
designator IC?
ESD Suppressors / TVS Diodes 5V 6-Line AEC-Q100 SLP4016P16; Manufacturer Name: SEMTECH; Geometry.Height: 0.65mm; Datasheet Link: https://componentsearchengine.com/Datasheets/1/ECLAMP2410PQTCT.pdf; Manufacturer Part Number: ECLAMP2410PQTCT; Mouser Part Number: 947-ECLAMP2410PQTCT; Mouser Price/Stock: https://www.mouser.co.uk/ProductDetail/Semtech/ECLAMP2410PQTCT?qs=rBWM4%252BvDhIcUJGN2YMPvUA%3D%3D; Arrow Part Number: ECLAMP2410PQTCT; Arrow Price/Stock: https://www.arrow.com/en/products/eclamp2410pqtct/semtech?region=nac
footprint SON50P160X400X65-17N
pins: 1 DAT1_IN, 2 DAT0_IN, 3 CLK_IN, 4 RUP1, 5 VDD, 6 CMD_IN, 7 DAT3_IN, 8 DAT2_IN, 9 DAT2_OUT, 10 DAT3_OUT, 11 CMD_OUT, 12 RUP2, 13 RUP3, 14 CLK_OUT, 15 DAT0_OUT, 16 DAT1_OUT, 17 EP

## ECS-80-20-4X
designator Y?, comment value 8MHz  (hidden comment: CRYSTAL 8.0000MHZ 20PF TH)
8 MHz ±30ppm Crystal 20pF 80 Ohms HC-49/US; Manufacturer Part Number: ECS-80-20-4X; LCSC Manufacturer Part Number: X49SD8MSD2SC; Order Code: Digi: X1094-ND; MF: ECS Inc.; Package: HC49/US ECS International; Digi-Key_Purchase_URL: https://www.digikey.com.tr/product-detail/en/ecs-inc/ECS-80-20-4X/X1094-ND/827585?utm_source=snapeda&utm_medium=aggregator&utm_campaign=symbol; SnapEDA_Link: https://www.snapeda.com/parts/ECS-80-20-4X/ECS%20Inc./view-part/558958/?ref=snap; LCSC Part Number: C21263
footprint XTAL_ECS-80-20-4X
pins: 1, 2

## ECS-80-20-4X_1
designator Y?, comment value 8MHz  (hidden comment: CRYSTAL 8.0000MHZ 20PF TH)
8 MHz ±30ppm Crystal 20pF 80 Ohms HC-49/US; Manufacturer Part Number: ECS-80-20-4X; LCSC Manufacturer Part Number: X49SD8MSD2SC; Order Code: Digi: X1094-ND; MF: ECS Inc.; Package: HC49/US ECS International; Digi-Key_Purchase_URL: https://www.digikey.com.tr/product-detail/en/ecs-inc/ECS-80-20-4X/X1094-ND/827585?utm_source=snapeda&utm_medium=aggregator&utm_campaign=symbol; SnapEDA_Link: https://www.snapeda.com/parts/ECS-80-20-4X/ECS%20Inc./view-part/558958/?ref=snap; LCSC Part Number: C21263
footprint XTAL_ECS-80-20-4X
pins: 1, 2

## ECS-.327-12.5-34R-TR
designator X?, comment CRYSTAL 32.7680KHZ 12.5PF SMD
Crystal 0.032768MHz ±20ppm (Tol) 12.5pF Flexural 50000Ohm 2-Pin Mini-CSMD T/R
footprint ECS32712534RRTR
pins: 1 OUT/IN, 2 OUT/IN

## EEEFT1H221AV
designator C?, comment 220uF 50V
220 µF 50 V Aluminum Electrolytic Capacitors Radial, Can - SMD 180mOhm @ 100kHz 2000 Hrs @ 105°C; Manufacturer Part Number: EEE-FT1H221AV; MF: Panasonic Electronic Components; Package: RADIAL-2 Panasonic; Price: None; Availability: In Stock; Value: *; Check_prices: https://www.snapeda.com/parts/EEE-FT1H221AV/Panasonic/view-part/5517810/?ref=eda; SnapEDA_Link: https://www.snapeda.com/parts/EEE-FT1H221AV/Panasonic/view-part/5517810/?ref=snap
footprint CAP_EEEFT1H221AV
pins: 1, 2

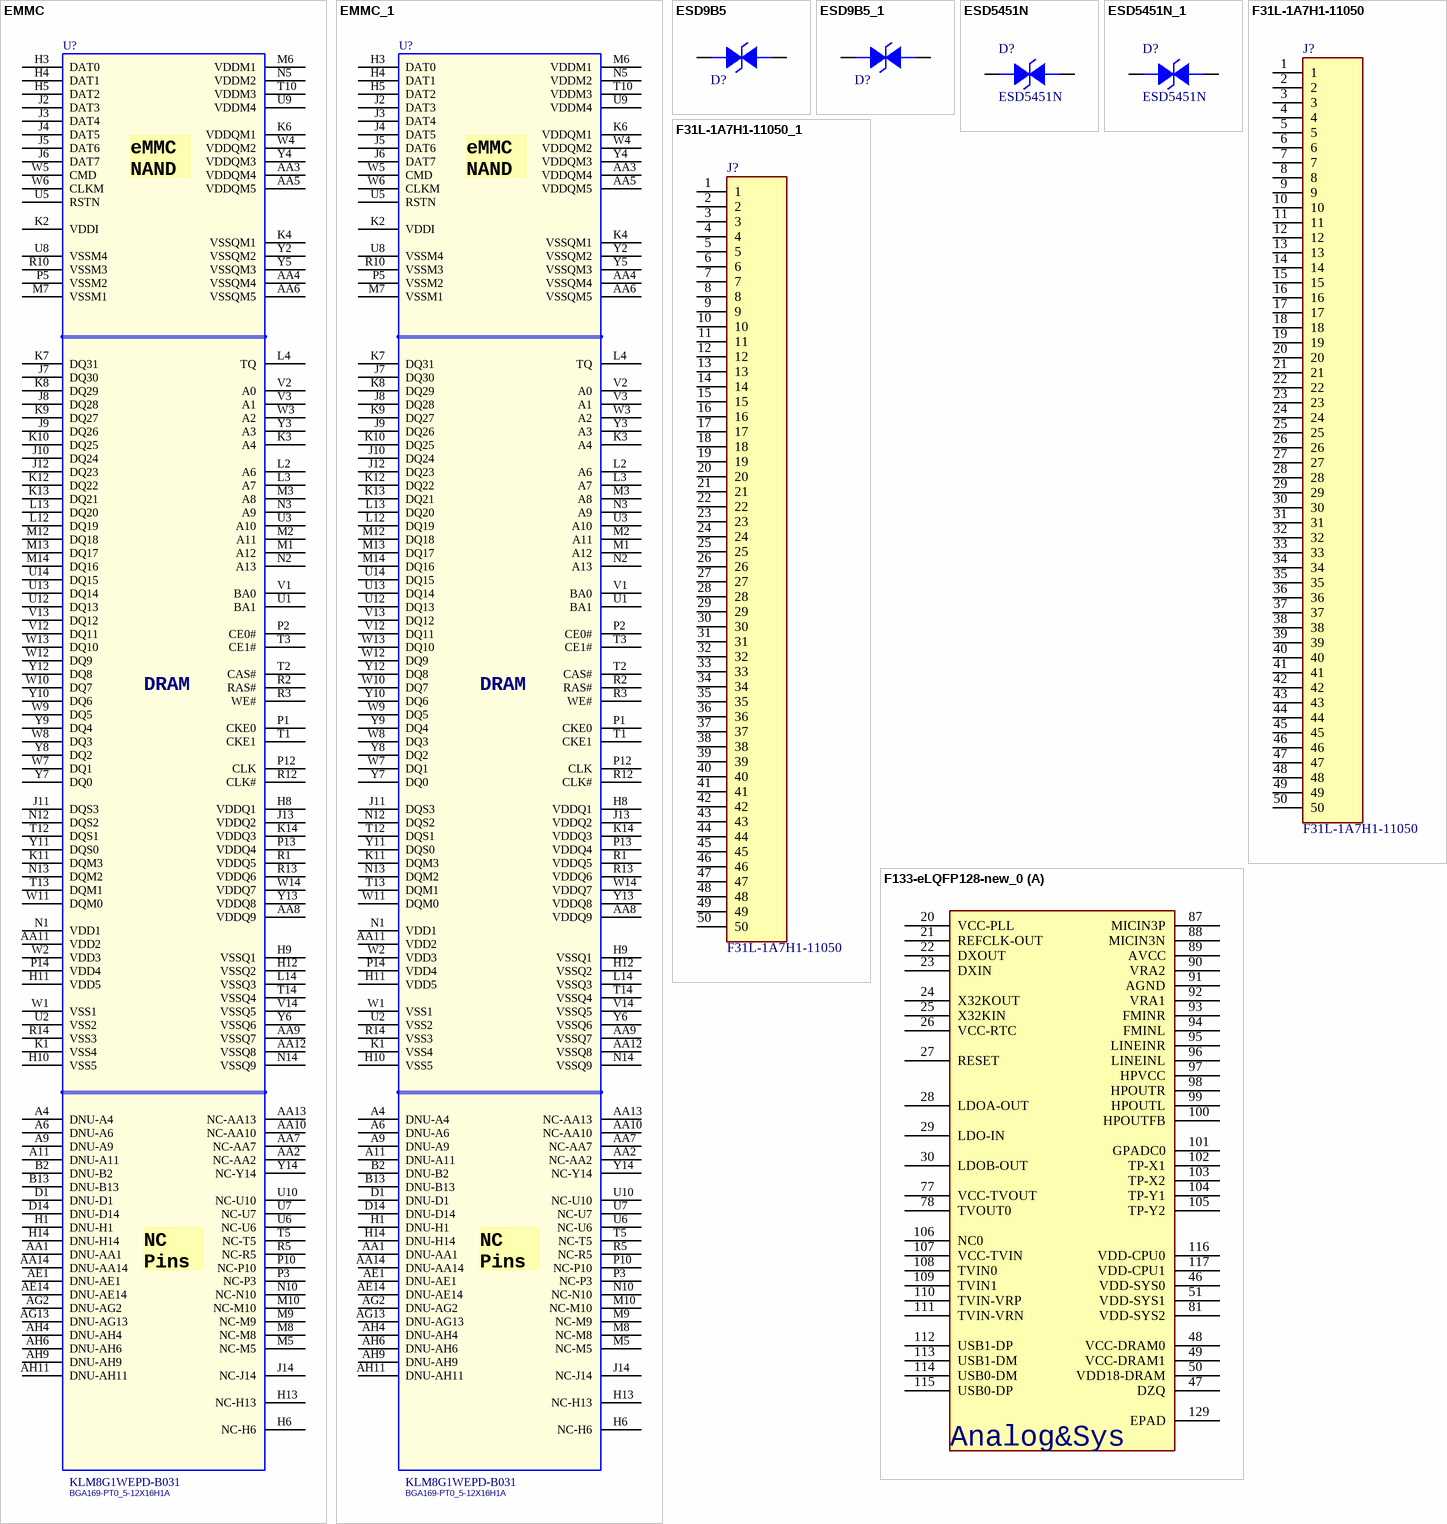
[diagram p6: symbols EMMC to F133-eLQFP128-new_0]

## EMMC
designator U?, comment KLM8G1WEPD-B031  PCB Footprint: BGA169-PT0_5-12X16H1A
Manufacturer Part Number: KLM8G1WEPD-B031
footprint MCP-BGA169
footprint BGA169-PT0_5-12X16H1A
pins: A4 DNU-A4, A6 DNU-A6, A9 DNU-A9, A11 DNU-A11, AA1 DNU-AA1, AA2 NC-AA2, AA3 VDDQM4, AA4 VSSQM4, AA5 VDDQM5, AA6 VSSQM5, AA7 NC-AA7, AA8 VDDQ9, AA9 VSSQ7, AA10 NC-AA10, AA11 VDD2, AA12 VSSQ8, AA13 NC-AA13, AA14 DNU-AA14, AE1 DNU-AE1, AE14 DNU-AE14, AG2 DNU-AG2, AG13 DNU-AG13, AH4 DNU-AH4, AH6 DNU-AH6, AH9 DNU-AH9, AH11 DNU-AH11, B2 DNU-B2, B13 DNU-B13, D1 DNU-D1, D14 DNU-D14, H1 DNU-H1, H3 DAT0, H4 DAT1, H5 DAT2, H6 NC-H6, H8 VDDQ1, H9 VSSQ1, H10 VSS5, H11 VDD5, H12 VSSQ2, H13 NC-H13, H14 DNU-H14, J2 DAT3, J3 DAT4, J4 DAT5, J5 DAT6, J6 DAT7, J7 DQ30, J8 DQ28, J9 DQ26, J10 DQ24, J11 DQS3, J12 DQ23, J13 VDDQ2, J14 NC-J14, K1 VSS4, K2 VDDI, K3 A4, K4 VSSQM1, K6 VDDQM1, K7 DQ31, K8 DQ29, K9 DQ27, K10 DQ25, K11 DQM3, K12 DQ22, K13 DQ21, K14 VDDQ3, L2 A6, L3 A7, L4 TQ, L12 DQ19, L13 DQ20, L14 VSSQ3, M1 A12, M2 A11, M3 A8, M5 NC-M5, M6 VDDM1, M7 VSSM1, M8 NC-M8, M9 NC-M9, M10 NC-M10, M12 DQ18, M13 DQ17, M14 DQ16, N1 VDD1, N2 A13, N3 A9, N5 VDDM2, N10 NC-N10, N12 DQS2, N13 DQM2, N14 VSSQ9, P1 CKE0, P2 CE0#, P3 NC-P3, P5 VSSM2, P10 NC-P10, P12 CLK, P13 VDDQ4, P14 VDD4, R1 VDDQ5, R2 RAS#, R3 WE#, R5 NC-R5, R10 VSSM3, R12 CLK#, R13 VDDQ6, R14 VSS3, T1 CKE1, T2 CAS#, T3 CE1#, T5 NC-T5, T10 VDDM3, T12 DQS1, T13 DQM1, T14 VSSQ4, U1 BA1, U2 VSS2, U3 A10, U5 RSTN, U6 NC-U6, U7 NC-U7, U8 VSSM4, U9 VDDM4, U10 NC-U10, U12 DQ13, U13 DQ14, U14 DQ15, V1 BA0, V2 A0, V3 A1, V12 DQ11, V13 DQ12, V14 VSSQ5, W1 VSS1, W2 VDD3, W3 A2, W4 VDDQM2, W5 CMD, W6 CLKM, W7 DQ1, W8 DQ3, W9 DQ5, W10 DQ7, W11 DQM0, W12 DQ9, W13 DQ10, W14 VDDQ7, Y2 VSSQM2, Y3 A3, Y4 VDDQM3, Y5 VSSQM3, Y6 VSSQ6, Y7 DQ0, Y8 DQ2, Y9 DQ4, Y10 DQ6, Y11 DQS0, Y12 DQ8, Y13 VDDQ8, Y14 NC-Y14
text: eMMC / NAND; DRAM; NC / Pins

## EMMC_1
designator U?, comment KLM8G1WEPD-B031  PCB Footprint: BGA169-PT0_5-12X16H1A
Manufacturer Part Number: KLM8G1WEPD-B031
footprint MCP-BGA169
footprint BGA169-PT0_5-12X16H1A
pins: A4 DNU-A4, A6 DNU-A6, A9 DNU-A9, A11 DNU-A11, AA1 DNU-AA1, AA2 NC-AA2, AA3 VDDQM4, AA4 VSSQM4, AA5 VDDQM5, AA6 VSSQM5, AA7 NC-AA7, AA8 VDDQ9, AA9 VSSQ7, AA10 NC-AA10, AA11 VDD2, AA12 VSSQ8, AA13 NC-AA13, AA14 DNU-AA14, AE1 DNU-AE1, AE14 DNU-AE14, AG2 DNU-AG2, AG13 DNU-AG13, AH4 DNU-AH4, AH6 DNU-AH6, AH9 DNU-AH9, AH11 DNU-AH11, B2 DNU-B2, B13 DNU-B13, D1 DNU-D1, D14 DNU-D14, H1 DNU-H1, H3 DAT0, H4 DAT1, H5 DAT2, H6 NC-H6, H8 VDDQ1, H9 VSSQ1, H10 VSS5, H11 VDD5, H12 VSSQ2, H13 NC-H13, H14 DNU-H14, J2 DAT3, J3 DAT4, J4 DAT5, J5 DAT6, J6 DAT7, J7 DQ30, J8 DQ28, J9 DQ26, J10 DQ24, J11 DQS3, J12 DQ23, J13 VDDQ2, J14 NC-J14, K1 VSS4, K2 VDDI, K3 A4, K4 VSSQM1, K6 VDDQM1, K7 DQ31, K8 DQ29, K9 DQ27, K10 DQ25, K11 DQM3, K12 DQ22, K13 DQ21, K14 VDDQ3, L2 A6, L3 A7, L4 TQ, L12 DQ19, L13 DQ20, L14 VSSQ3, M1 A12, M2 A11, M3 A8, M5 NC-M5, M6 VDDM1, M7 VSSM1, M8 NC-M8, M9 NC-M9, M10 NC-M10, M12 DQ18, M13 DQ17, M14 DQ16, N1 VDD1, N2 A13, N3 A9, N5 VDDM2, N10 NC-N10, N12 DQS2, N13 DQM2, N14 VSSQ9, P1 CKE0, P2 CE0#, P3 NC-P3, P5 VSSM2, P10 NC-P10, P12 CLK, P13 VDDQ4, P14 VDD4, R1 VDDQ5, R2 RAS#, R3 WE#, R5 NC-R5, R10 VSSM3, R12 CLK#, R13 VDDQ6, R14 VSS3, T1 CKE1, T2 CAS#, T3 CE1#, T5 NC-T5, T10 VDDM3, T12 DQS1, T13 DQM1, T14 VSSQ4, U1 BA1, U2 VSS2, U3 A10, U5 RSTN, U6 NC-U6, U7 NC-U7, U8 VSSM4, U9 VDDM4, U10 NC-U10, U12 DQ13, U13 DQ14, U14 DQ15, V1 BA0, V2 A0, V3 A1, V12 DQ11, V13 DQ12, V14 VSSQ5, W1 VSS1, W2 VDD3, W3 A2, W4 VDDQM2, W5 CMD, W6 CLKM, W7 DQ1, W8 DQ3, W9 DQ5, W10 DQ7, W11 DQM0, W12 DQ9, W13 DQ10, W14 VDDQ7, Y2 VSSQM2, Y3 A3, Y4 VDDQM3, Y5 VSSQM3, Y6 VSSQ6, Y7 DQ0, Y8 DQ2, Y9 DQ4, Y10 DQ6, Y11 DQS0, Y12 DQ8, Y13 VDDQ8, Y14 NC-Y14
text: eMMC / NAND; DRAM; NC / Pins

## ESD9B5
designator D?, comment TVS DIODE 5VWM SOD923  (value not drawn)
Clamp Ipp Tvs Diode Surface Mount SOD-923; LCSC Manufacturer Part Number: ESD9B5VD; LCSC Part Number: C2835422
footprint On_Semiconductor_514AB-CA_MFG
pins: 1 ANODE, 2 CATHODE

## ESD9B5_1
designator D?, comment TVS DIODE 5VWM SOD923  (value not drawn)
Clamp Ipp Tvs Diode Surface Mount SOD-923; LCSC Manufacturer Part Number: ESD9B5VD; LCSC Part Number: C2835422
footprint On_Semiconductor_514AB-CA_MFG
pins: 1 ANODE, 2 CATHODE

## ESD5451N
designator D?, comment LCSC Manufacturer Part Number: ESD5451N  (hidden comment: DFN1006(SOD-882) ESD Protection Devices ROHS)
Order Code: LCSC: C2936977; LCSC Part Number: C2936977; Manufacturer Part Number: ESD5451N
footprint On_Semiconductor_514AB-CA_MFG
pins: 1 ANODE, 2 CATHODE

## ESD5451N_1
designator D?, comment LCSC Manufacturer Part Number: ESD5451N  (hidden comment: DFN1006(SOD-882) ESD Protection Devices ROHS)
Order Code: LCSC: C2936977; LCSC Part Number: C2936977; Manufacturer Part Number: ESD5451N
footprint On_Semiconductor_514AB-CA_MFG
pins: 1 ANODE, 2 CATHODE

## F31L-1A7H1-11050
designator J?
MF: Amphenol ICC (FCI); Package: None; Price: None; Value: *; MP: F31L-1A7H1-11050; Availability: Unavailable
footprint AMPHENOL_F31L-1A7H1-11050
pins: 1, 2, 3, 4, 5, 6, 7, 8, 9, 10, 11, 12, 13, 14, 15, 16, 17, 18, 19, 20, 21, 22, 23, 24, 25, 26, 27, 28, 29, 30, 31, 32, 33, 34, 35, 36, 37, 38, 39, 40, 41, 42, 43, 44, 45, 46, 47, 48, 49, 50

## F31L-1A7H1-11050_1
designator J?, comment F31L-1A7H1-11050
MF: Amphenol ICC (FCI); Package: None; Price: None; Value: *; MP: F31L-1A7H1-11050; Availability: Unavailable
footprint AMPHENOL_F31L-1A7H1-11050
pins: 1, 2, 3, 4, 5, 6, 7, 8, 9, 10, 11, 12, 13, 14, 15, 16, 17, 18, 19, 20, 21, 22, 23, 24, 25, 26, 27, 28, 29, 30, 31, 32, 33, 34, 35, 36, 37, 38, 39, 40, 41, 42, 43, 44, 45, 46, 47, 48, 49, 50

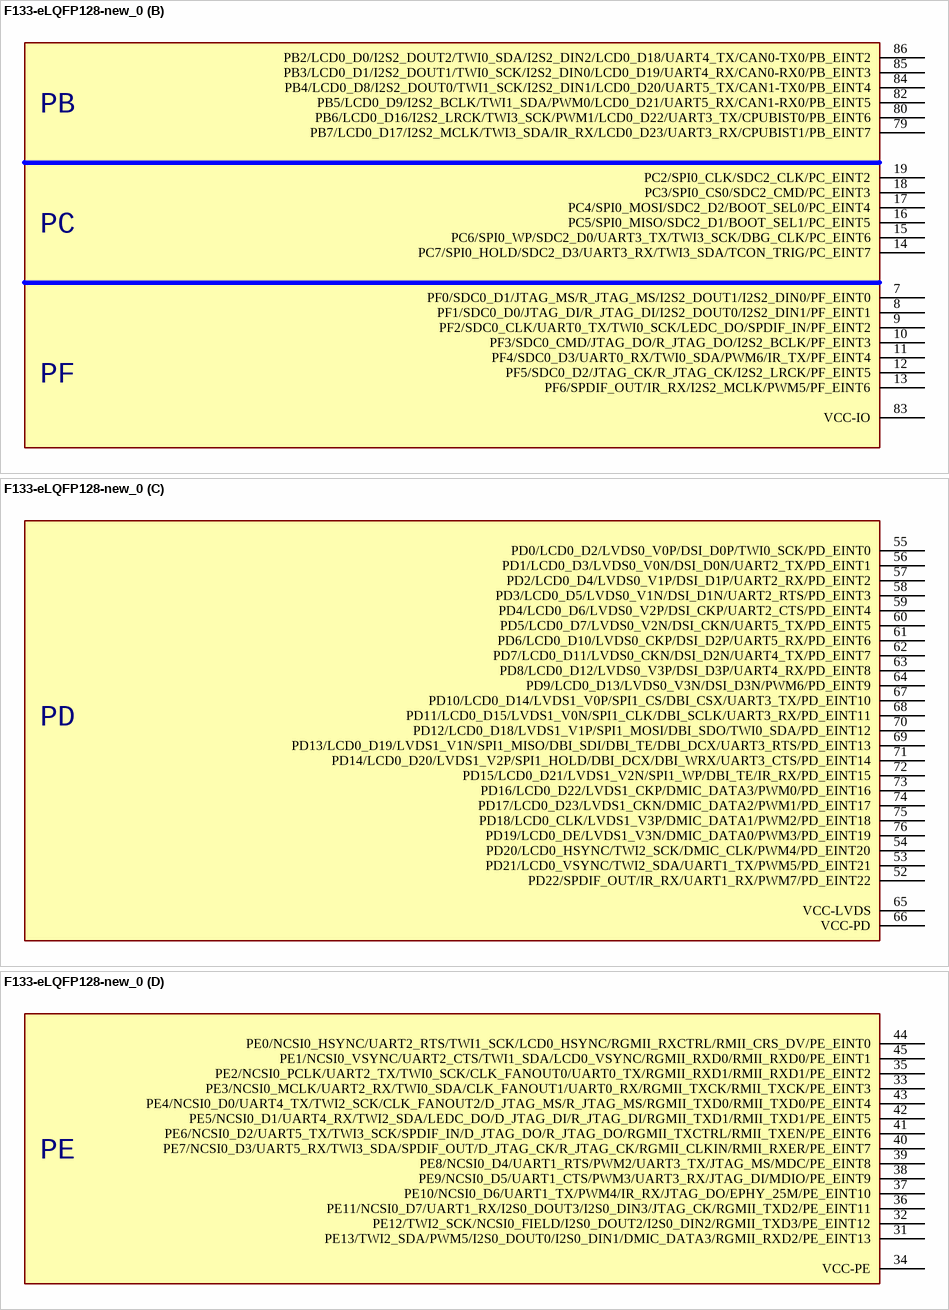
[diagram p7: symbol F133-eLQFP128-new_0]

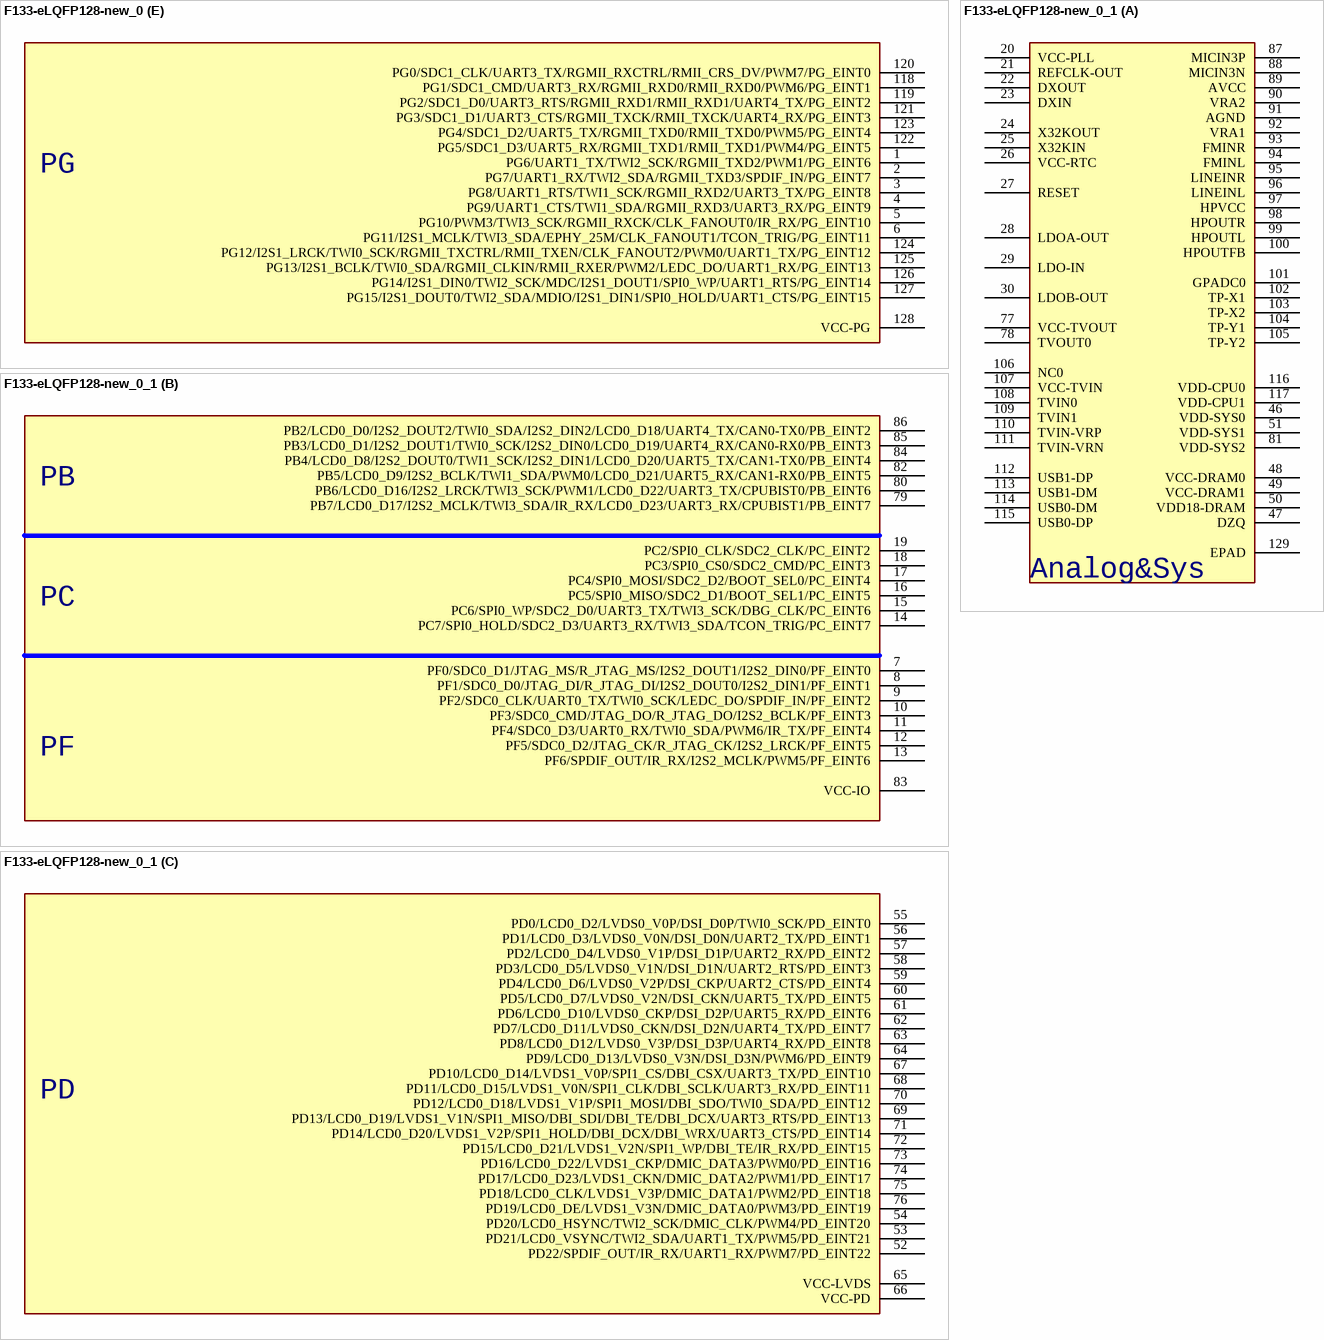
[diagram p8: symbols F133-eLQFP128-new_0 to F133-eLQFP128-new_0_1]